# EAGLE library part E22_PLATE (library bluepill)
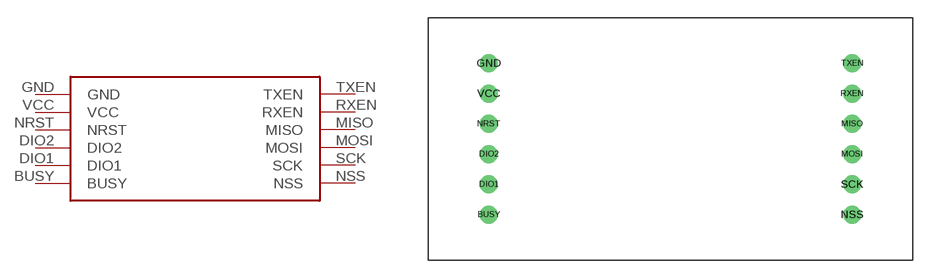
[diagram p11: symbol with the pads of E22_PLATE; footprint E22_PLATE]

Designator prefix -

## E22_PLATE  [E22_PLATE]
BUSY  BUSY
DIO1  DIO1
DIO2  DIO2
GND  GND
MISO  MISO
MOSI  MOSI
NRST  NRST
NSS  NSS
RXEN  RXEN
SCK  SCK
TXEN  TXEN
VCC  VCC

## Footprint E22_PLATE (pad centres in mm)
drill 1: BUSY -15.24,-6.35; DIO1 -15.24,-3.81; DIO2 -15.24,-1.27; GND -15.24,6.35; MISO 15.24,1.27; MOSI 15.24,-1.27; NRST -15.24,1.27; NSS 15.24,-6.35; RXEN 15.24,3.81; SCK 15.24,-3.81; TXEN 15.24,6.35; VCC -15.24,3.81